# Altium schematic symbol library s9013.SchLib: 1 symbol
Pins are listed as number, name and electrical type; pins without a type are passive.

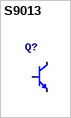
[diagram p0: symbol S9013]

## S9013
designator Q?
Bipolar (BJT) Transistor NPN 25 V 500 mA 150MHz 300 mW Surface Mount SOT-23
pins: 1 B, 2 E, 3 C